# EAGLE library part HTS221TR (library HTS221)
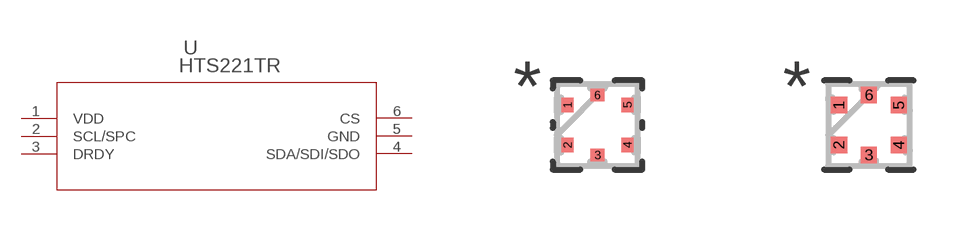
[diagram p0: symbol with the pads of HLGA-6L_2X2_STM; footprints HLGA-6L_2X2_STM, HLGA-6L_2X2_STM-M]

Designator prefix U

## HTS221TR (BUILT_BY: EMA_Anthony; COPYRIGHT: Copyright (C) 2018 Accelerated Designs. All rights reserved; DATASHEET: https://www.st.com/content/ccc/resource/technical/document/datasheet/4d/9a/9c/ad/25/07/42/34/DM00116291.pdf/files/DM00116291.pdf/jcr:content/translations/en.DM00116291.pdf; MANUFACTURER_PART_NUMBER: HTS221TR; SOURCELIBRARY: Updates_to_database_2020-11-03; VENDOR: STMicroelectronics)  [HLGA-6L_2X2_STM]
1  VDD  pwr
2  SCL/SPC  pas
3  DRDY  pas
4  SDA/SDI/SDO  pas
5  GND  pas
6  CS  pas

## HTS221TRHLGA-6L_2X2_STM-M (BUILT_BY: EMA_Anthony; COPYRIGHT: Copyright (C) 2018 Accelerated Designs. All rights reserved; DATASHEET: https://www.st.com/content/ccc/resource/technical/document/datasheet/4d/9a/9c/ad/25/07/42/34/DM00116291.pdf/files/DM00116291.pdf/jcr:content/translations/en.DM00116291.pdf; MANUFACTURER_PART_NUMBER: HTS221TR; SOURCELIBRARY: Updates_to_database_2020-11-03; VENDOR: STMicroelectronics)  [HLGA-6L_2X2_STM-M]
Pads as for HLGA-6L_2X2_STM

## HTS221TRHLGA-6L_2X2_STM-L (BUILT_BY: EMA_Anthony; COPYRIGHT: Copyright (C) 2018 Accelerated Designs. All rights reserved; DATASHEET: https://www.st.com/content/ccc/resource/technical/document/datasheet/4d/9a/9c/ad/25/07/42/34/DM00116291.pdf/files/DM00116291.pdf/jcr:content/translations/en.DM00116291.pdf; MANUFACTURER_PART_NUMBER: HTS221TR; SOURCELIBRARY: Updates_to_database_2020-11-03; VENDOR: STMicroelectronics)  [HLGA-6L_2X2_STM-L]
Pads as for HLGA-6L_2X2_STM

## Footprint HLGA-6L_2X2_STM (pad centres in mm)
smd 0.305 x 0.356: 1 -0.749,0.5; 2 -0.749,-0.5; 4 0.749,-0.5; 5 0.749,0.5
smd 0.356 x 0.305: 3 0,-0.749; 6 0,0.749

## Footprint HLGA-6L_2X2_STM-M (pad centres in mm)
smd 0.406 x 0.406: 1 -0.749,0.5; 2 -0.749,-0.5; 3 0,-0.749; 4 0.749,-0.5; 5 0.749,0.5; 6 0,0.749

## Footprint HLGA-6L_2X2_STM-L (pad centres in mm)
smd 0.203 x 0.305: 1 -0.749,0.5; 2 -0.749,-0.5; 4 0.749,-0.5; 5 0.749,0.5
smd 0.305 x 0.203: 3 0,-0.749; 6 0,0.749